# EAGLE library part EPG.1B.314.NLNS (library lplemo)
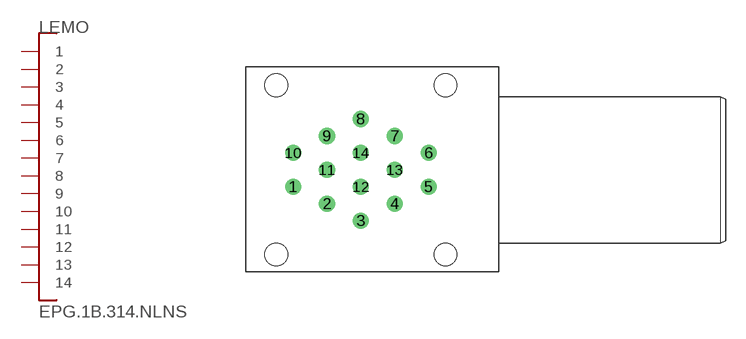
[diagram p19: symbol with the pads of P20-EPG.1B.314S; footprint P20-EPG.1B.314S]

Designator prefix LEMO

## EPG.1B.314.NLNS  [P20-EPG.1B.314S]
1  1
2  2
3  3
4  4
5  5
6  6
7  7
8  8
9  9
10  10
11  11
12  12
13  13
14  14

## Footprint P20-EPG.1B.314S (pad centres in mm)
drill 0.7 round: 1 -11.43,-1.27; 2 -8.89,-2.54; 3 -6.35,-3.81; 4 -3.81,-2.54; 5 -1.27,-1.27; 6 -1.27,1.27; 7 -3.81,2.54; 8 -6.35,3.81; 9 -8.89,2.54; 10 -11.43,1.27; 11 -8.89,0; 12 -6.35,-1.27; 13 -3.81,0; 14 -6.35,1.27
hole 1.7 at -12.7,-6.35
hole 1.7 at 0,-6.35
hole 1.7 at 0,6.35
hole 1.7 at -12.7,6.35